# EAGLE library part 62900416021 (library EagleLibrary_Wuerth_Elektronik_eiCan_Communication_Connectors_v6_20150113)
WR-COM SMT Horizontal USB Type A,4 pins=>Code : Con_I-O_COM_USB-2.0_A_62900416021 <http://katalog.we-online.de/media/images/eican/Con_I-O_COM_USB-2.0_A_62900416021_pf2.jpg> Details see: http://katalog.we-online.de/en/em/629_004_160_21 Created 2014-07-09, Karrer Zheng 2014 (C) Würth Elektronik
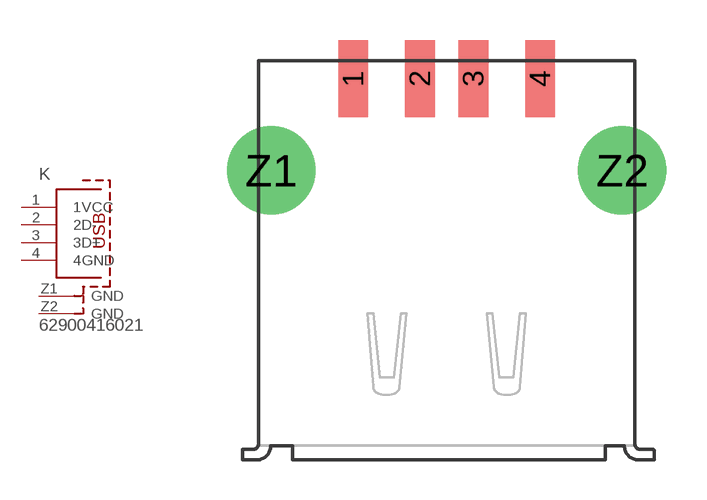
[diagram p68: symbol with the pads of 62900416021; footprint 62900416021]

Designator prefix K

## 62900416021  [62900416021]
1  1VCC  pas
2  2D-  pas
3  3D+  pas
4  4GND  pas
Z1  GND
Z2  GND

## Footprint 62900416021 (pad centres in mm)
WR-COM SMT Horizontal USB Type A, 4 pins
smd 1.12 x 2.88: 1 -3.5,0; 2 -1,0; 3 1,0; 4 3.5,0
drill 2.3: Z1 -6.575,-3.45; Z2 6.575,-3.45